# Altium footprint library Reza.PcbLib: 15 footprints
Each footprint in its own frame and in the unit in brackets; x right, y up, seen from the top. Pads: shape width x height; smd on the part's side, far side on the other; paste and mask are expansions set on the pad; w line width, h text height; cw(c..) or ccw(c..) is an arc to the next point about the centre after c.
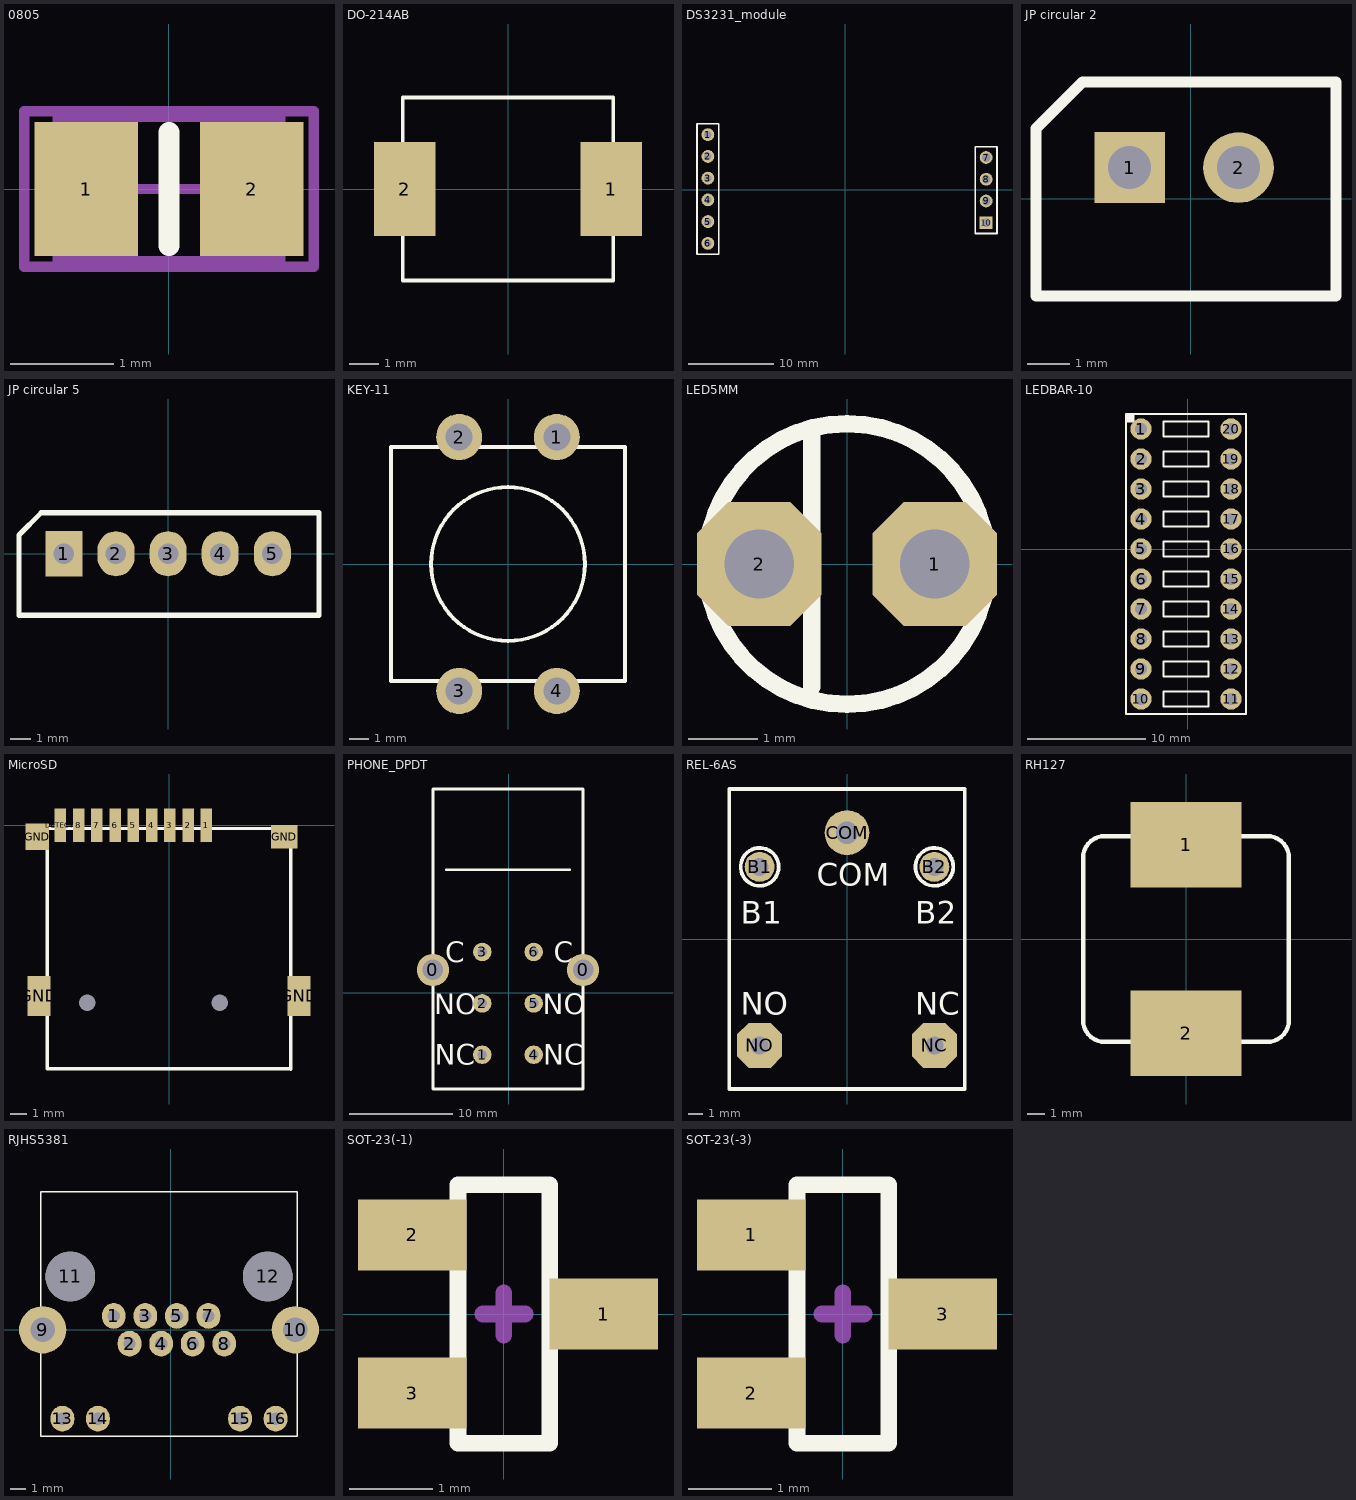
[diagram p0: the footprints below, top view; thin cyan lines are the x and y axes]

## 0805 [mm] "Chip Resistor, Body 2.0x1.2mm, IPC High Density"
height 0.7
pads (2):
  rect 1x1.3 smd: 1(-0.8,0) 2(0.8,0)
Top Overlay:
  lines w0.2: 0,-0.55 0,0.55
Mechanical 13:
  lines w0.1: -1.075,-0.7 -1.075,0.7 1.075,0.7 1.075,-0.7 -1.075,-0.7
Mechanical 15:
  lines w0.1: -0.5,0 0.5,0 ; 0,-0.5 0,0.5 ; -1.4,-0.75 -1.4,0.75 1.4,0.75 1.4,-0.75 -1.4,-0.75
3D body: height 0.7, standoff 0, extent -1.075,-0.7 1.075,0.7

## DO-214AB [mm] "DO-214AB(SMC)"
pads (2):
  rect 2.1x3.2 smd: 1(3.525,0) 2(-3.525,0)
Top Overlay:
  lines w0.127: -3.6,-3.125 3.6,-3.125 ; -3.6,-3.11 -3.6,3.11 ; -3.6,3.125 3.6,3.125 ; 3.6,-3.11 3.6,3.11

## DS3231_module [mm] "DS3231_module"
pads (10):
  round 1.5 hole 0.9: 1(-16.05,6.43) 2(-16.05,3.89) 3(-16.05,1.35) 4(-16.05,-1.19) 5(-16.05,-3.73) 6(-16.05,-6.27)
  round 1.5 hole 1: 7(16.46,3.76) 8(16.46,1.22) 9(16.46,-1.32)
  rect 1.5x1.5 hole 1: 10(16.46,-3.86)
Top Overlay:
  lines w0.2: -17.32,-7.54 -14.78,-7.54 -14.78,7.7 -17.32,7.7 -17.32,-7.54 ; 15.19,-5.13 17.73,-5.13 17.73,5.03 15.19,5.03 15.19,-5.13
3D body: height 8, standoff 0, extent -20,-11 19,11

## JP circular 2 [mm] "Circular Pin connector - 2Pin"
height 6
pads (2):
  rect 1.651x1.651 hole 1: 1(-1.425,0.725)
  round 1.651 hole 1: 2(1.115,0.725)
Top Overlay:
  lines w0.254: 3.34,2.725 -2.525,2.725 -3.61,1.64 -3.61,-2.275 3.39,-2.275 3.39,2.725

## JP circular 5 [mm]
height 6
pads (5):
  rect 1.8x2.2 hole 1: 1(-5.08,0)
  oval 1.8x2.2 hole 1: 2(-2.54,0) 3(0,0) 4(2.54,0) 5(5.08,0)
Top Overlay:
  lines w0.254: -7.265,-3 -7.265,0.915 -6.18,2 7.355,2 7.355,-3 -7.265,-3

## KEY-11 [mm]
height 19.7
pads (4):
  round 2.4 hole 1.4: 1(2.54,6.604) 2(-2.54,6.604) 3(-2.54,-6.604) 4(2.54,-6.604)
Top Overlay:
  circle w0.2: c0,0 r4
  lines w0.2: -6.096,-6.096 6.096,-6.096 6.096,6.096 -6.096,6.096 -6.096,-6.096

## LED5MM [mm]
pads (2):
  oct 1.8x1.8 hole 1: 1(1.27,0) 2(-1.27,0)
Top Overlay:
  circle w0.254: c0,0 r2.032
  circle w0.254: c1.27,0 r0.762
  circle w0.254: c-1.27,0 r0.762
  lines w0.254: -0.508,-1.778 -0.508,1.905
  text "K" at -1.092,0.305 h0.64
  text "A" at 1.499,0.305 h0.64

## LEDBAR-10 [mm]
height 19.7
pads (20):
  round 1.8 hole 1 unplated mask+0.051: 1(-3.945,10.175) 2(-3.945,7.635) 3(-3.945,5.095) 4(-3.945,2.555) 5(-3.945,0.015) 6(-3.945,-2.525) 7(-3.945,-5.065) 8(-3.945,-7.605) 9(-3.945,-10.145) 10(-3.945,-12.685) 11(3.675,-12.685) 12(3.675,-10.145) 13(3.675,-7.605) 14(3.675,-5.065) 15(3.675,-2.525) 16(3.675,0.015) 17(3.675,2.555) 18(3.675,5.095) 19(3.675,7.635) 20(3.675,10.175)
Top Overlay:
  rectangle: -5.215,10.81 -4.58,11.445
  lines w0.152: -5.215,10.81 -4.58,10.81 -4.58,11.445 ; -5.215,-13.955 -5.215,11.445 4.945,11.445 4.945,-13.955 -5.215,-13.955 ; -2.04,-13.32 -2.04,-12.05 1.77,-12.05 1.77,-13.32 -2.04,-13.32 ; -2.04,-10.78 1.77,-10.78 1.77,-9.51 -2.04,-9.51 -2.04,-10.78 ; -2.04,-8.24 -2.04,-6.97 1.77,-6.97 1.77,-8.24 -2.04,-8.24 ; -2.04,-5.7 1.77,-5.7 1.77,-4.43 -2.04,-4.43 -2.04,-5.7 ; -2.04,-3.16 1.77,-3.16 1.77,-1.89 -2.04,-1.89 -2.04,-3.16 ; -2.04,-0.62 -2.04,0.65 1.77,0.65 1.77,-0.62 -2.04,-0.62 ; -2.04,1.92 1.77,1.92 1.77,3.19 -2.04,3.19 -2.04,1.92 ; -2.04,4.46 -2.04,5.73 1.77,5.73 1.77,4.46 -2.04,4.46 ; -2.04,7 1.77,7 1.77,8.27 -2.04,8.27 -2.04,7 ; -2.04,9.54 -2.04,10.81 1.77,10.81 1.77,9.54 -2.04,9.54
3D body "DC-10.STEP": height 8.25, standoff -3.74, extent -5.215,-13.955 4.945,11.445

## MicroSD [mm]
pads (15):
  round 0 hole 1: 0(-4.955,-10.7) 0(3.025,-10.7)
  rect 0.7x2 smd: 1(2.225,0) 2(1.125,0) 3(0.025,0) 4(-1.075,0) 5(-2.175,0) 6(-3.275,0) 7(-4.375,0) 8(-5.475,0) DETECT(-6.575,0)
  rect 1.4x1.6 smd: GND(-7.975,-0.7)
  rect 1.4x2.4 smd: GND(-7.875,-10.3) GND(7.825,-10.3)
  rect 1.6x1.4 smd: GND(6.925,-0.7)
Top Overlay:
  lines w0.2: 7.325,-14.732 7.325,-0.2 -7.375,-0.2 -7.375,-14.7 7.325,-14.7

## PHONE_DPDT [mm] "Switch of phone from type of DPDT"
pads (8):
  round 3.15 hole 2: 0(-7.375,2.2) 0(7.225,2.2)
  round 1.8 hole 0.9: 1(-2.575,-6.05) 2(-2.575,-1.05) 3(-2.575,3.95) 4(2.425,-6.05) 5(2.425,-1.05) 6(2.425,3.95)
Top Overlay:
  lines w0.254: -6.075,11.95 5.925,11.95 ; -7.375,-9.38 -7.375,19.8 7.225,19.8 7.225,-9.38 -7.375,-9.38
  text "NO" at 3.305,-2.1 h2
  text "NO" at -7.25,-2.1 h2
  text "NC" at 3.352,-7.025 h2
  text "NC" at -7.202,-7.025 h2
  text "C" at 4.381,2.925 h2
  text "C" at -6.174,2.925 h2

## REL-6AS [mm]
pads (5):
  round 2 hole 1.2: B1(-5.842,4.826) B2(5.842,4.826)
  round 3 hole 1.5: COM(0,7.112)
  oct 3x3 hole 1.2: NC(5.842,-7.112) NO(-5.842,-7.112)
Top Overlay:
  circle w0.254: c0,7.112 r1.27
  circle w0.254: c-5.842,4.826 r1.27
  circle w0.254: c5.842,4.826 r1.27
  circle w0.254: c5.842,-7.112 r1.27
  circle w0.254: c-5.842,-7.112 r1.27
  lines w0.254: -7.874,-10.033 -7.874,10.033 7.874,10.033 7.874,-10.033 -7.874,-10.033
  text "COM" at -2.032,3.556 h1.52
  text "NC" at 4.572,-5.08 h1.52
  text "NO" at -7.112,-5.08 h1.52
  text "B2" at 4.572,1.016 h1.52
  text "B1" at -7.112,1.016 h1.52

## RH127 [mm] "RH127 inductor 12*12*7 (100uH)"
pads (2):
  rect 6.5x5 smd: 1(0,5.5) 2(0,-5.5)
Top Overlay:
  lines w0.254: -6,-4.75 ccw(c-4.75,-4.75) -4.75,-6 4.75,-6 ccw(c4.75,-4.75) 6,-4.75 6,4.75 ccw(c4.75,4.75) 4.75,6 -4.75,6 ccw(c-4.75,4.75) -6,4.75 -6,-4.75
3D body: height 7, standoff 0, extent -5.975,-6 6.05,5.975

## RJHS5381 [mil]
height 775.59
pads (16):
  oval 60x65 hole 31.5: 1(-145.04,35) 2(-105.04,-35) 3(-65.04,35) 4(-25.04,-35) 5(14.96,35) 6(54.96,-35) 7(94.96,35) 8(134.96,-35) 13(-275.04,-225) 14(-185.04,-225) 15(174.96,-225) 16(264.96,-225)
  round 120 hole 62.99: 9(-325.04,0) 10(314.96,0)
  round 125.98 hole 125.98 unplated: 11(-255.04,135) 12(244.96,135)
Top Overlay:
  lines w4: -330.04,-59 -330.04,-270 319.96,-270 319.96,-59 ; -330.04,59 -330.04,350 319.96,350 319.96,59

## SOT-23(-1) [mm]
pads (3):
  rect 1.3x0.85 smd: 1(1.2,0) 2(-1.1,0.95) 3(-1.1,-0.95)
Top Overlay:
  lines w0.2: 0.05,-1.55 0.55,-1.55 ; 0.05,1.55 0.55,1.55 ; 0.55,-0.825 0.55,-1.55 ; 0.55,0.825 0.55,1.55 ; 0.55,-1.55 0.55,1.55 ; 0.55,-1.55 -0.55,-1.55 -0.55,1.55 0.55,1.55
Mechanical 15:
  lines w0.2: -0.254,0 0.254,0 ; 0,-0.254 0,0.254
3D body "SOT23.STEP": height 1, standoff -0.02, extent -1.27,-1.46 1.206,1.46

## SOT-23(-3) [mm]
pads (3):
  rect 1.3x0.85 smd: 1(-1.1,0.95) 2(-1.1,-0.95) 3(1.2,0)
Top Overlay:
  lines w0.2: 0.05,-1.55 0.55,-1.55 ; 0.05,1.55 0.55,1.55 ; 0.55,-0.825 0.55,-1.55 ; 0.55,0.825 0.55,1.55 ; 0.55,-1.55 -0.55,-1.55 -0.55,1.55 0.55,1.55 ; 0.55,-1.55 0.55,1.55
Mechanical 15:
  lines w0.2: -0.254,0 0.254,0 ; 0,-0.254 0,0.254
3D body "SOT23.STEP": height 1, standoff -0.02, extent -1.27,-1.46 1.206,1.46